# EAGLE library part MICROSD-CARD-MODULE (library MICROSD-CARD-MODULE)
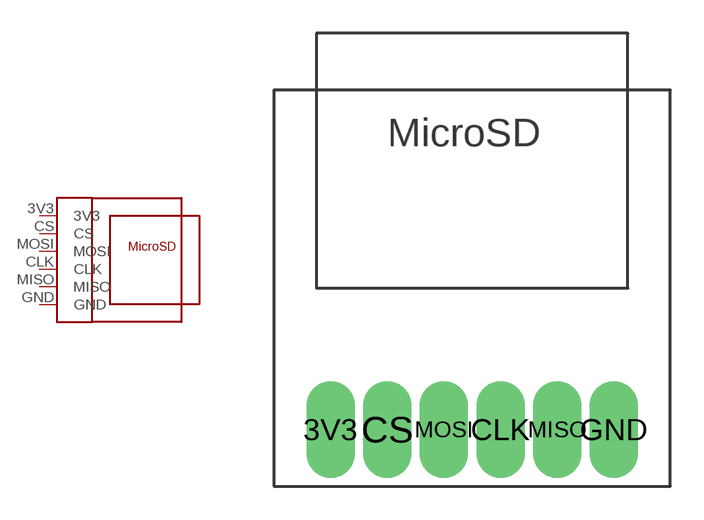
[diagram p0: symbol with the pads of MICROSD-CARD-MODULE; footprint MICROSD-CARD-MODULE]

Designator prefix -

## MICROSD-CARD-MODULE  [MICROSD-CARD-MODULE]
3V3  3V3
CLK  CLK
CS  CS
GND  GND
MISO  MISO
MOSI  MOSI

## Footprint MICROSD-CARD-MODULE (pad centres in mm)
drill 1 pad 2.184 long: 3V3 -6.35,-10.16; CLK 1.27,-10.16; CS -3.81,-10.16; GND 6.35,-10.16; MISO 3.81,-10.16; MOSI -1.27,-10.16